# Altium schematic symbol library Regulators.SchLib: 3 symbols
Pins are listed as number, name and electrical type; pins without a type are passive.

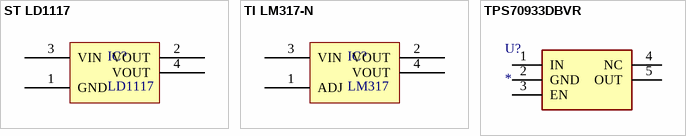
[diagram p0: symbols ST LD1117 to TPS70933DBVR]

## ST LD1117
designator IC?, comment LD1117
Wide Temperature Three-Pin Adjustable Regulator
footprint SOT-223 (SOT223, 4-Leads, Body 6.50x7.00mm (avg), Pitch 2.30mm, IPC Medium Density)
pins: 1 GND, 2 VOUT, 3 VIN, 4 VOUT

## TI LM317-N
designator IC?, comment LM317
Wide Temperature Three-Pin Adjustable Regulator
footprint SOT-223 (SOT223, 4-Leads, Body 6.50x7.00mm (avg), Pitch 2.30mm, IPC Medium Density)
pins: 1 ADJ, 2 VOUT, 3 VIN, 4 VOUT

## TPS70933DBVR
designator U?
Low Power 3.3V linear regulator; Manufacturer_Name: Texas Instruments; Manufacturer_Part_Number: TPS70933DBVR; Description: 150-mA 30-V ultra-low-Iq wide-input low-dropout (LDO) regulator with reverse current protection; Datasheet Link: http://www.ti.com/lit/gpn/tps709; Height: 1.45mm; Mouser Part Number: 595-TPS70933DBVR; Mouser Price/Stock: https://www.mouser.co.uk/ProductDetail/Texas-Instruments/TPS70933DBVR?qs=Z9twEOuL%252B%2FJOaGO60BtvLA%3D%3D; Arrow Part Number: TPS70933DBVR; Arrow Price/Stock: https://www.arrow.com/en/products/tps70933dbvr/texas-instruments?region=nac
footprint SOT95P280X145-5N
pins: 1 IN, 2 GND, 3 EN, 4 NC, 5 OUT